# EAGLE library part 229-12VA (library trafo-hammond)
TOROID TRANSFORMER
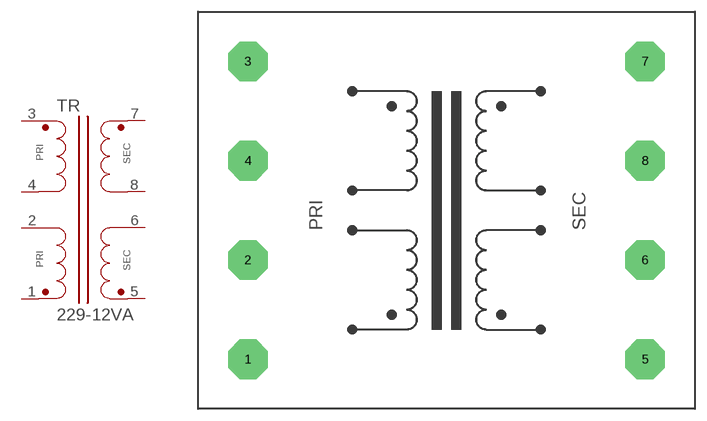
[diagram p2: symbol with the pads of 229-12VA; footprint 229-12VA]

Designator prefix TR

## 229-12VA  [229-12VA]
1  1  pas
2  2  pas
3  3  pas
4  4  pas
5  5  pas
6  6  pas
7  7  pas
8  8  pas

## Footprint 229-12VA (pad centres in mm)
POWER TRANSFORMER W=2.00, L=2.50 inch PC Card Spacing 1.25"
drill 1.422 pad 5.08 octagon: 1 -25.4,-19.05; 2 -25.4,-6.35; 3 -25.4,19.05; 4 -25.4,6.35; 5 25.4,-19.05; 6 25.4,-6.35; 7 25.4,19.05; 8 25.4,6.35